# EAGLE library part DF3-10 (library hirose)
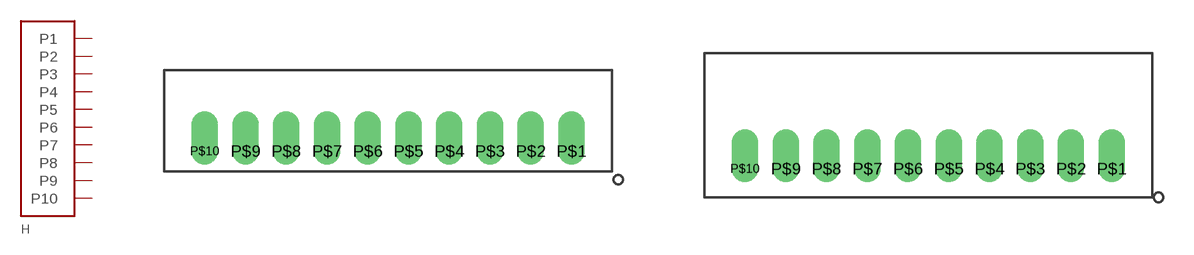
[diagram p2: symbol with the pads of DF3-10; footprints DF3-10, DF3-10-RA]

Designator prefix H

## DF3-10  [DF3-10]
P$1  P1
P$2  P2
P$3  P3
P$4  P4
P$5  P5
P$6  P6
P$7  P7
P$8  P8
P$9  P9
P$10  P10

## DF3-10RA  [DF3-10-RA]
Pads as for DF3-10

## Footprint DF3-10 (pad centres in mm)
drill 0.8 offset: P$1 0,0; P$2 -2,0; P$3 -4,0; P$4 -6,0; P$5 -8,0; P$6 -10,0; P$7 -12,0; P$8 -14,0; P$9 -16,0; P$10 -18,0

## Footprint DF3-10-RA (pad centres in mm)
drill 0.8 offset: P$1 0,0; P$2 -2,0; P$3 -4,0; P$4 -6,0; P$5 -8,0; P$6 -10,0; P$7 -12,0; P$8 -14,0; P$9 -16,0; P$10 -18,0